# Altium footprint library Components.PcbLib: 24 footprints (part 2 of 2)
Each footprint in its own frame and in the unit in brackets; x right, y up, seen from the top. Pads: shape width x height; smd on the part's side, far side on the other; paste and mask are expansions set on the pad; w line width, h text height; cw(c..) or ccw(c..) is an arc to the next point about the centre after c.
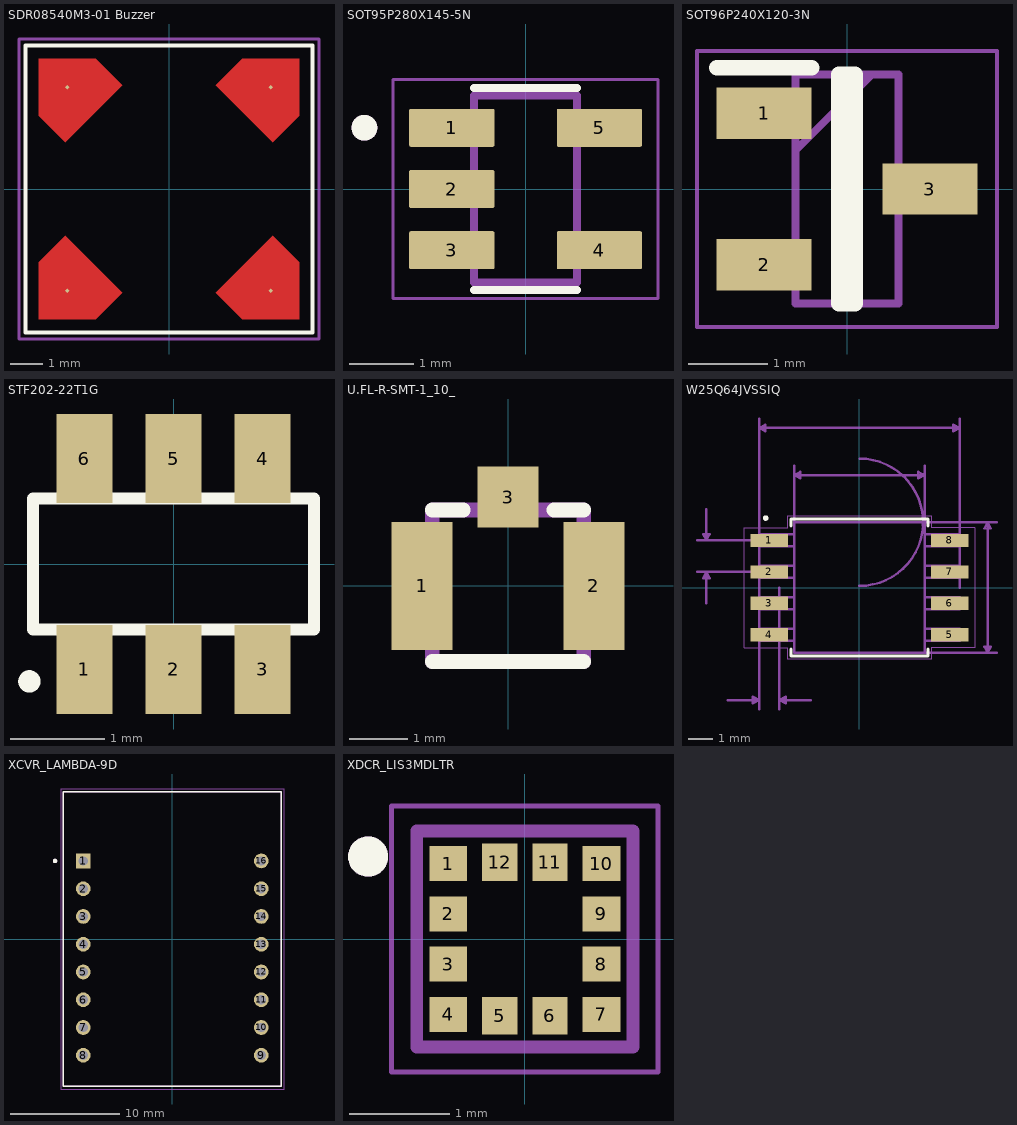
[diagram p1: the footprints below, top view; thin cyan lines are the x and y axes]

## SDR08540M3-01 Buzzer [mm]
pads (4):
  rect 0.1x0.1 smd rot 135: 1(3.19,3.19) 3(-3.19,-3.19)
  rect 0.1x0.1 smd rot 45: 2(-3.19,3.19) 4(3.19,-3.19)
F.Cu:
  region: 4.081,2.299 3.247,1.465 1.465,3.247 2.299,4.081 4.081,4.081
  region: -1.465,3.247 -3.247,1.465 -4.081,2.299 -4.081,4.081 -2.299,4.081
  region: -1.465,-3.247 -2.299,-4.081 -4.081,-4.081 -4.081,-2.299 -3.247,-1.465
  region: 4.081,-2.299 4.081,-4.081 2.299,-4.081 1.465,-3.247 3.247,-1.465
F.SilkS:
  lines w0.12: -4.5,-4.5 -4.5,4.5 4.5,4.5 4.5,-4.5 -4.5,-4.5
F.Paste:
  region: 4.081,2.299 3.247,1.465 1.465,3.247 2.299,4.081 4.081,4.081
  region: -1.465,3.247 -3.247,1.465 -4.081,2.299 -4.081,4.081 -2.299,4.081
  region: -1.465,-3.247 -2.299,-4.081 -4.081,-4.081 -4.081,-2.299 -3.247,-1.465
  region: 4.081,-2.299 4.081,-4.081 2.299,-4.081 1.465,-3.247 3.247,-1.465
F.Mask:
  region: 4.081,2.299 3.247,1.465 1.465,3.247 2.299,4.081 4.081,4.081
  region: -1.465,3.247 -3.247,1.465 -4.081,2.299 -4.081,4.081 -2.299,4.081
  region: -1.465,-3.247 -2.299,-4.081 -4.081,-4.081 -4.081,-2.299 -3.247,-1.465
  region: 4.081,-2.299 4.081,-4.081 2.299,-4.081 1.465,-3.247 3.247,-1.465
F.Fab:
  text "'.Designator'" at -1.439,-2.898 h1
F.CrtYd:
  lines w0.1: -4.7,-4.7 -4.7,4.7 4.7,4.7 4.7,-4.7 -4.7,-4.7

## SOT95P280X145-5N [mm]
pads (5):
  rrect7% 1.32x0.59 smd: 1(-1.145,0.95) 2(-1.145,0) 3(-1.145,-0.95) 4(1.145,-0.95) 5(1.145,0.95)
F.SilkS:
  circle w0.2: c-2.5,0.95 r0.1
  lines w0.127: -0.8,-1.565 0.8,-1.565 ; -0.8,1.565 0.8,1.565
F.Fab:
  circle w0.2: c-2.5,0.95 r0.1
  lines w0.127: -0.8,-1.45 0.8,-1.45 0.8,1.45 -0.8,1.45 -0.8,-1.45
F.CrtYd:
  lines w0.05: -2.055,-1.7 2.055,-1.7 2.055,1.7 -2.055,1.7 -2.055,-1.7

## SOT96P240X120-3N [mm]
pads (3):
  rect 1.2x0.65 smd: 1(-1.05,0.96) 2(-1.05,-0.96) 3(1.05,0)
F.SilkS:
  lines w0.2: -1.65,1.535 -0.45,1.535 ; -0.1,-1.45 0.1,-1.45 0.1,1.45 -0.1,1.45 -0.1,-1.45
F.Fab:
  lines w0.1: -0.65,0.49 0.31,1.45 ; -0.65,-1.45 0.65,-1.45 0.65,1.45 -0.65,1.45 -0.65,-1.45
  text "'.Designator'" at -1.826,-0.506 h1.27
F.CrtYd:
  lines w0.05: -1.9,-1.75 -1.9,1.75 1.9,1.75 1.9,-1.75 -1.9,-1.75

## STF202-22T1G [mm]
pads (6):
  rect 0.6x0.95 smd: 1(-0.95,-1.125) 2(0,-1.125) 3(0.95,-1.125) 4(0.95,1.125) 5(0,1.125) 6(-0.95,1.125)
F.SilkS:
  circle w0.12: c-1.537,-1.252 r0.059
  lines w0.127: -1.5,-0.7 -1.5,0.7 1.5,0.7 1.5,-0.7 -1.5,-0.7

## U.FL-R-SMT-1_10_ [mm]
pads (3):
  rect 1.05x2.2 smd: 1(-1.475,0) 2(1.475,0)
  rect 1.05x1.05 smd: 3(0,1.525)
F.SilkS:
  lines w0.254: -1.3,-1.3 1.3,-1.3 ; -1.3,1.3 -0.77,1.3 ; 0.788,1.3 1.3,1.3
F.Fab:
  lines w0.254: -1.3,-1.3 1.3,-1.3 1.3,1.3 -1.3,1.3 -1.3,-1.3
  text "'.Designator'" at -2.171,-0.569 h1.27

## W25Q64JVSSIQ [mil]
pads (8):
  rect 59.56x20.97 smd: 1(-143.5,75) 2(-143.5,25) 3(-143.5,-25) 4(-143.5,-75) 5(143.5,-75) 6(143.5,-25) 7(143.5,25) 8(143.5,75)
F.SilkS:
  circle w4.72: c-149.11,110.56 r2.11
  lines w4.72: -109,-97.7 -109,-109 109,-109 109,-97.7 ; -109,97.7 -109,109 109,109 109,97.7
F.Fab:
  lines w3.94: -0.3,2.64 ccw(c0,104) 0.3,205.36 ; -159.5,-84.5 -104,-84.5 -104,-65.5 -159.5,-65.5 -159.5,-84.5 ; -159.5,-34.5 -104,-34.5 -104,-15.5 -159.5,-15.5 -159.5,-34.5 ; -159.5,15.5 -104,15.5 -104,34.5 -159.5,34.5 -159.5,15.5 ; -159.5,65.5 -104,65.5 -104,84.5 -159.5,84.5 -159.5,65.5 ; -104,-104 -104,104 104,104 104,-104 -104,-104 ; 104,-84.5 159.5,-84.5 159.5,-65.5 104,-65.5 104,-84.5 ; 104,-34.5 159.5,-34.5 159.5,-15.5 104,-15.5 104,-34.5 ; 104,15.5 159.5,15.5 159.5,34.5 104,34.5 104,15.5 ; 104,65.5 159.5,65.5 159.5,84.5 104,84.5 104,65.5
  text "*" at -93.8,96.4 h39.37
  text "*" at -93.8,96.4 h39.37
F.CrtYd:
  lines w1.97: -183.28,-95.48 -114,-95.48 -114,-114 114,-114 114,-95.48 183.28,-95.48 183.28,95.48 114,95.48 114,114 -114,114 -114,95.48 -183.28,95.48 -183.28,-95.48
Cmts.User:
  lines w3.94: -258.5,25 -143.5,25 ; -258.5,75 -143.5,75 ; -243.5,-25 -243.5,25 ; -243.5,125 -243.5,75 ; -209.5,-179 -159.5,-179 ; -159.5,-194 -159.5,0 -159.5,269 ; -127.5,-194 -127.5,0 ; -104,0 -104,194 ; -77.5,-179 -127.5,-179 ; 0,-104 219,-104 ; 0,104 219,104 ; 104,0 104,194 ; 159.5,0 159.5,269 ; -243.5,25 -238.5,15 -248.5,15 -243.5,25 ; -243.5,75 -238.5,85 -248.5,85 -243.5,75 ; -159.5,-179 -169.5,-184 -169.5,-174 -159.5,-179 ; -159.5,254 -149.5,259 -149.5,249 -159.5,254 ; -159.5,254 159.5,254 ; -127.5,-179 -117.5,-174 -117.5,-184 -127.5,-179 ; -104,179 104,179 ; -104,179 -94,184 -94,174 -104,179 ; 104,179 94,174 94,184 104,179 ; 159.5,254 149.5,249 149.5,259 159.5,254 ; 204,-104 204,104 ; 204,-104 199,-94 209,-94 204,-104 ; 204,104 199,94 209,94 204,104
  text "0.06in/1.513mm" at -220.4,-210.25 h39.37
  text "0.05in/1.27mm" at -334.43,38.75 h39.37
  text "0.021in/0.533mm" at 180.64,63.75 h39.37
  text "Copyright 2021 Accelerated Designs. All rights reserved." at -33.91,-1.92 h5
  text "0.287in/7.29mm" at -76.89,187.75 h39.37

## XCVR_LAMBDA-9D [mm]
pads (16):
  rect 1.348x1.348 hole 0.84: 1(-8.145,7.145)
  round 1.348 hole 0.84: 2(-8.145,4.605) 3(-8.145,2.065) 4(-8.145,-0.475) 5(-8.145,-3.015) 6(-8.145,-5.555) 7(-8.145,-8.095) 8(-8.145,-10.635) 9(8.145,-10.635) 10(8.145,-8.095) 11(8.145,-5.555) 12(8.145,-3.015) 13(8.145,-0.475) 14(8.145,2.065) 15(8.145,4.605) 16(8.145,7.145)
F.SilkS:
  circle w0.2: c-10.725,7.145 r0.1
  lines w0.127: -9.975,-13.475 -9.975,13.475 9.975,13.475 9.975,-13.475 -9.975,-13.475
F.Fab:
  circle w0.2: c-10.725,7.145 r0.1
  lines w0.127: -9.975,-13.475 9.975,-13.475 9.975,13.475 -9.975,13.475 -9.975,-13.475
F.CrtYd:
  lines w0.05: -10.225,-13.725 -10.225,13.725 10.225,13.725 10.225,-13.725 -10.225,-13.725

## XDCR_LIS3MDLTR [mm]
pads (12):
  rect 0.375x0.35 smd: 1(-0.763,0.75) 2(-0.763,0.25) 3(-0.763,-0.25) 4(-0.763,-0.75) 7(0.763,-0.75) 8(0.763,-0.25) 9(0.763,0.25) 10(0.763,0.75)
  rect 0.35x0.375 smd: 5(-0.25,-0.763) 6(0.25,-0.763) 11(0.25,0.763) 12(-0.25,0.763)
F.SilkS:
  circle w0.2: c-1.56,0.82 r0.1
F.Mask:
  region: 1,0.525 0.525,0.525 0.525,0.975 1,0.975
  region: -0.525,0.525 -1,0.525 -1,0.975 -0.525,0.975
  region: -0.525,0.025 -1,0.025 -1,0.475 -0.525,0.475
  region: -0.525,-0.475 -1,-0.475 -1,-0.025 -0.525,-0.025
  region: -0.525,-0.975 -1,-0.975 -1,-0.525 -0.525,-0.525
  region: 1,0.025 0.525,0.025 0.525,0.475 1,0.475
  region: 1,-0.475 0.525,-0.475 0.525,-0.025 1,-0.025
  region: 1,-0.975 0.525,-0.975 0.525,-0.525 1,-0.525
  region: -0.025,-1 -0.475,-1 -0.475,-0.525 -0.025,-0.525
  region: -0.025,0.525 -0.475,0.525 -0.475,1 -0.025,1
  region: 0.475,0.525 0.025,0.525 0.025,1 0.475,1
  region: 0.475,-1 0.025,-1 0.025,-0.525 0.475,-0.525
F.Fab:
  circle w0.2: c-1.56,0.82 r0.1
  lines w0.127: -1.075,-1.075 -1.075,1.075 1.075,1.075 1.075,-1.075 -1.075,-1.075
F.CrtYd:
  lines w0.05: -1.325,-1.325 -1.325,1.325 1.325,1.325 1.325,-1.325 -1.325,-1.325